# Altium footprint library Pattern No3d 20090609.PcbLib: 323 footprints (part 11 of 22)
Each footprint in its own frame and in the unit in brackets; x right, y up, seen from the top. Pads: shape width x height; smd on the part's side, far side on the other; paste and mask are expansions set on the pad; w line width, h text height; cw(c..) or ccw(c..) is an arc to the next point about the centre after c.
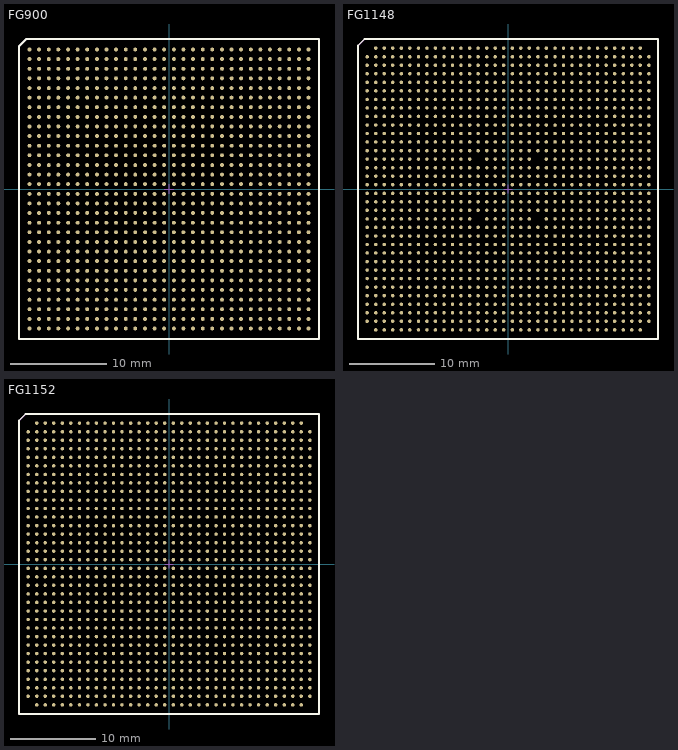
[diagram p10: the footprints below, top view; thin cyan lines are the x and y axes]

## FG900 [mil] "http://www.xilinx.com/support/documentation/package_specs/fg900.pdf"
pads (900):
  oct 16x16 smd mask+3: A1(-571,571)
  round 16 smd mask+3: A2(-532,571) A3(-492,571) A4(-453,571) A5(-413,571) A6(-374,571) A7(-335,571) A8(-295,571) A9(-256,571) A10(-217,571) A11(-177,571) A12(-138,571) A13(-98,571) A14(-59,571) A15(-20,571) A16(20,571) A17(59,571) A18(98,571) A19(138,571) A20(177,571) A21(217,571) A22(256,571) A23(295,571) A24(335,571) A25(374,571) A26(413,571) A27(453,571) A28(492,571) A29(532,571) A30(571,571) AA1(-571,-217) AA2(-532,-217) AA3(-492,-217) AA4(-453,-217) AA5(-413,-217) AA6(-374,-217) AA7(-335,-217) AA8(-295,-217) AA9(-256,-217) AA10(-217,-217) AA11(-177,-217) AA12(-138,-217) AA13(-98,-217) AA14(-59,-217) AA15(-20,-217) AA16(20,-217) AA17(59,-217) AA18(98,-217) AA19(138,-217) AA20(177,-217) AA21(217,-217) AA22(256,-217) AA23(295,-217) AA24(335,-217) AA25(374,-217) AA26(413,-217) AA27(453,-217) AA28(492,-217) AA29(532,-217) AA30(571,-217) AB1(-571,-256) AB2(-532,-256) AB3(-492,-256) AB4(-453,-256) AB5(-413,-256) AB6(-374,-256) AB7(-335,-256) AB8(-295,-256) AB9(-256,-256) AB10(-217,-256) AB11(-177,-256) AB12(-138,-256) AB13(-98,-256) AB14(-59,-256) AB15(-20,-256) AB16(20,-256) AB17(59,-256) AB18(98,-256) AB19(138,-256) AB20(177,-256) AB21(217,-256) AB22(256,-256) AB23(295,-256) AB24(335,-256) AB25(374,-256) AB26(413,-256) AB27(453,-256) AB28(492,-256) AB29(532,-256) AB30(571,-256) AC1(-571,-295) AC2(-532,-295) AC3(-492,-295) AC4(-453,-295) AC5(-413,-295) AC6(-374,-295) AC7(-335,-295) AC8(-295,-295) AC9(-256,-295) AC10(-217,-295) AC11(-177,-295) AC12(-138,-295) AC13(-98,-295) AC14(-59,-295) AC15(-20,-295) AC16(20,-295) AC17(59,-295) AC18(98,-295) AC19(138,-295) AC20(177,-295) AC21(217,-295) AC22(256,-295) AC23(295,-295) AC24(335,-295) AC25(374,-295) AC26(413,-295) AC27(453,-295) AC28(492,-295) AC29(532,-295) AC30(571,-295) AD1(-571,-335) AD2(-532,-335) AD3(-492,-335) AD4(-453,-335) AD5(-413,-335) AD6(-374,-335) AD7(-335,-335) AD8(-295,-335) AD9(-256,-335) AD10(-217,-335) AD11(-177,-335) AD12(-138,-335) AD13(-98,-335) AD14(-59,-335) AD15(-20,-335) AD16(20,-335) AD17(59,-335) AD18(98,-335) AD19(138,-335) AD20(177,-335) AD21(217,-335) AD22(256,-335) AD23(295,-335) AD24(335,-335) AD25(374,-335) AD26(413,-335) AD27(453,-335) AD28(492,-335) AD29(532,-335) AD30(571,-335) AE1(-571,-374) AE2(-532,-374) AE3(-492,-374) AE4(-453,-374) AE5(-413,-374) AE6(-374,-374) AE7(-335,-374) AE8(-295,-374) AE9(-256,-374) AE10(-217,-374) AE11(-177,-374) AE12(-138,-374) AE13(-98,-374) AE14(-59,-374) AE15(-20,-374) AE16(20,-374) AE17(59,-374) AE18(98,-374) AE19(138,-374) AE20(177,-374) AE21(217,-374) AE22(256,-374) AE23(295,-374) AE24(335,-374) AE25(374,-374) AE26(413,-374) AE27(453,-374) AE28(492,-374) AE29(532,-374) AE30(571,-374) AF1(-571,-413) AF2(-532,-413) AF3(-492,-413) AF4(-453,-413) AF5(-413,-413) AF6(-374,-413) AF7(-335,-413) AF8(-295,-413) AF9(-256,-413) AF10(-217,-413) AF11(-177,-413) AF12(-138,-413) AF13(-98,-413) AF14(-59,-413) AF15(-20,-413) AF16(20,-413) AF17(59,-413) AF18(98,-413) AF19(138,-413) AF20(177,-413) AF21(217,-413) AF22(256,-413) AF23(295,-413) AF24(335,-413) AF25(374,-413) AF26(413,-413) AF27(453,-413) AF28(492,-413) AF29(532,-413) AF30(571,-413) AG1(-571,-453) AG2(-532,-453) AG3(-492,-453) AG4(-453,-453) AG5(-413,-453) AG6(-374,-453) AG7(-335,-453) AG8(-295,-453) AG9(-256,-453) AG10(-217,-453) AG11(-177,-453) AG12(-138,-453) AG13(-98,-453) AG14(-59,-453) AG15(-20,-453) AG16(20,-453) AG17(59,-453) AG18(98,-453) AG19(138,-453) AG20(177,-453) AG21(217,-453) AG22(256,-453) AG23(295,-453) AG24(335,-453) AG25(374,-453) AG26(413,-453) AG27(453,-453) AG28(492,-453) AG29(532,-453) AG30(571,-453) AH1(-571,-492) AH2(-532,-492) AH3(-492,-492) AH4(-453,-492) AH5(-413,-492) AH6(-374,-492) AH7(-335,-492) AH8(-295,-492) AH9(-256,-492) AH10(-217,-492) AH11(-177,-492) AH12(-138,-492) AH13(-98,-492) AH14(-59,-492) AH15(-20,-492) AH16(20,-492) AH17(59,-492) AH18(98,-492) AH19(138,-492) AH20(177,-492) AH21(217,-492) AH22(256,-492) AH23(295,-492) AH24(335,-492) AH25(374,-492) AH26(413,-492) AH27(453,-492) AH28(492,-492) AH29(532,-492) AH30(571,-492) AJ1(-571,-532) AJ2(-532,-532) AJ3(-492,-532) AJ4(-453,-532) AJ5(-413,-532) AJ6(-374,-532) AJ7(-335,-532) AJ8(-295,-532) AJ9(-256,-532) AJ10(-217,-532) AJ11(-177,-532) AJ12(-138,-532) AJ13(-98,-532) AJ14(-59,-532) AJ15(-20,-532) AJ16(20,-532) AJ17(59,-532) AJ18(98,-532) AJ19(138,-532) AJ20(177,-532) AJ21(217,-532) AJ22(256,-532) AJ23(295,-532) AJ24(335,-532) AJ25(374,-532) AJ26(413,-532) AJ27(453,-532) AJ28(492,-532) AJ29(532,-532) AJ30(571,-532) AK1(-571,-571) AK2(-532,-571) AK3(-492,-571) AK4(-453,-571) AK5(-413,-571) AK6(-374,-571) AK7(-335,-571) AK8(-295,-571) AK9(-256,-571) AK10(-217,-571) AK11(-177,-571) AK12(-138,-571) AK13(-98,-571) AK14(-59,-571) AK15(-20,-571) AK16(20,-571) AK17(59,-571) AK18(98,-571) AK19(138,-571) AK20(177,-571) AK21(217,-571) AK22(256,-571) AK23(295,-571) AK24(335,-571) AK25(374,-571) AK26(413,-571) AK27(453,-571) AK28(492,-571) AK29(532,-571) AK30(571,-571) B1(-571,532) B2(-532,532) B3(-492,532) B4(-453,532) B5(-413,532) B6(-374,532) B7(-335,532) B8(-295,532) B9(-256,532) B10(-217,532) B11(-177,532) B12(-138,532) B13(-98,532) B14(-59,532) B15(-20,532) B16(20,532) B17(59,532) B18(98,532) B19(138,532) B20(177,532) B21(217,532) B22(256,532) B23(295,532) B24(335,532) B25(374,532) B26(413,532) B27(453,532) B28(492,532) B29(532,532) B30(571,532) C1(-571,492) C2(-532,492) C3(-492,492) C4(-453,492) C5(-413,492) C6(-374,492) C7(-335,492) C8(-295,492) C9(-256,492) C10(-217,492) C11(-177,492) C12(-138,492) C13(-98,492) C14(-59,492) C15(-20,492) C16(20,492) C17(59,492) C18(98,492) C19(138,492) C20(177,492) C21(217,492) C22(256,492) C23(295,492) C24(335,492) C25(374,492) C26(413,492) C27(453,492) C28(492,492) C29(532,492) C30(571,492) D1(-571,453) D2(-532,453) D3(-492,453) D4(-453,453) D5(-413,453) D6(-374,453) D7(-335,453) D8(-295,453) D9(-256,453) D10(-217,453) D11(-177,453) D12(-138,453) D13(-98,453) D14(-59,453) D15(-20,453) D16(20,453) D17(59,453) D18(98,453) D19(138,453) D20(177,453) D21(217,453) D22(256,453) D23(295,453) D24(335,453) D25(374,453) D26(413,453) D27(453,453) D28(492,453) D29(532,453) D30(571,453) E1(-571,413) E2(-532,413) E3(-492,413) E4(-453,413) E5(-413,413) E6(-374,413) E7(-335,413) E8(-295,413) E9(-256,413) E10(-217,413) E11(-177,413) E12(-138,413) E13(-98,413) E14(-59,413) E15(-20,413) E16(20,413) E17(59,413) E18(98,413) E19(138,413) E20(177,413) E21(217,413) E22(256,413) E23(295,413) E24(335,413) E25(374,413) E26(413,413) E27(453,413) E28(492,413) E29(532,413) E30(571,413) F1(-571,374) F2(-532,374) F3(-492,374) F4(-453,374) F5(-413,374) F6(-374,374) F7(-335,374) F8(-295,374) F9(-256,374) F10(-217,374) F11(-177,374) F12(-138,374) F13(-98,374) F14(-59,374) F15(-20,374) F16(20,374) F17(59,374) F18(98,374) F19(138,374) F20(177,374) F21(217,374) F22(256,374) F23(295,374) F24(335,374) F25(374,374) F26(413,374) F27(453,374) F28(492,374) F29(532,374) F30(571,374) G1(-571,335) G2(-532,335) G3(-492,335) G4(-453,335) G5(-413,335) G6(-374,335) G7(-335,335) G8(-295,335) G9(-256,335) G10(-217,335) G11(-177,335) G12(-138,335) G13(-98,335) G14(-59,335) G15(-20,335) G16(20,335) G17(59,335) G18(98,335) G19(138,335) G20(177,335) G21(217,335) G22(256,335) G23(295,335) G24(335,335) G25(374,335) G26(413,335) G27(453,335) G28(492,335) G29(532,335) G30(571,335) H1(-571,295) H2(-532,295) H3(-492,295) H4(-453,295) H5(-413,295) H6(-374,295) H7(-335,295) H8(-295,295) H9(-256,295) H10(-217,295) H11(-177,295) H12(-138,295) H13(-98,295) H14(-59,295) H15(-20,295) H16(20,295) H17(59,295) H18(98,295) H19(138,295) H20(177,295) H21(217,295) H22(256,295) H23(295,295) H24(335,295) H25(374,295) H26(413,295) H27(453,295) H28(492,295) H29(532,295) H30(571,295) J1(-571,256) J2(-532,256) J3(-492,256) J4(-453,256) J5(-413,256) J6(-374,256) J7(-335,256) J8(-295,256) J9(-256,256) J10(-217,256) J11(-177,256) J12(-138,256) J13(-98,256) J14(-59,256) J15(-20,256) J16(20,256) J17(59,256) J18(98,256) J19(138,256) J20(177,256) J21(217,256) J22(256,256) J23(295,256) J24(335,256) J25(374,256) J26(413,256) J27(453,256) J28(492,256) J29(532,256) J30(571,256) K1(-571,217) K2(-532,217) K3(-492,217) K4(-453,217) K5(-413,217) K6(-374,217) K7(-335,217) K8(-295,217) K9(-256,217) K10(-217,217) K11(-177,217) K12(-138,217) K13(-98,217) K14(-59,217) K15(-20,217) K16(20,217) K17(59,217) K18(98,217) K19(138,217) K20(177,217) K21(217,217) K22(256,217) K23(295,217) K24(335,217) K25(374,217) K26(413,217) K27(453,217) K28(492,217) K29(532,217) K30(571,217) L1(-571,177) L2(-532,177) L3(-492,177) L4(-453,177) L5(-413,177) L6(-374,177) L7(-335,177) L8(-295,177) L9(-256,177) L10(-217,177) L11(-177,177) L12(-138,177) L13(-98,177) L14(-59,177) L15(-20,177) L16(20,177) L17(59,177) L18(98,177) L19(138,177) L20(177,177) L21(217,177) L22(256,177) L23(295,177) L24(335,177) L25(374,177) L26(413,177) L27(453,177) L28(492,177) L29(532,177) L30(571,177) M1(-571,138) M2(-532,138) M3(-492,138) M4(-453,138) M5(-413,138) M6(-374,138) M7(-335,138) M8(-295,138) M9(-256,138) M10(-217,138) M11(-177,138) M12(-138,138) M13(-98,138) M14(-59,138) M15(-20,138) M16(20,138) M17(59,138) M18(98,138) M19(138,138) M20(177,138) M21(217,138) M22(256,138) M23(295,138) M24(335,138) M25(374,138) M26(413,138) M27(453,138) M28(492,138) M29(532,138) M30(571,138) N1(-571,98) N2(-532,98) N3(-492,98) N4(-453,98) N5(-413,98) N6(-374,98) N7(-335,98) N8(-295,98) N9(-256,98) N10(-217,98) N11(-177,98) N12(-138,98) N13(-98,98) N14(-59,98) N15(-20,98) N16(20,98) N17(59,98) N18(98,98) N19(138,98) N20(177,98) N21(217,98) N22(256,98) N23(295,98) N24(335,98) N25(374,98) N26(413,98) N27(453,98) N28(492,98) N29(532,98) N30(571,98) P1(-571,59) P2(-532,59) P3(-492,59) P4(-453,59) P5(-413,59) P6(-374,59) P7(-335,59) P8(-295,59) P9(-256,59) P10(-217,59) P11(-177,59) P12(-138,59) P13(-98,59) P14(-59,59) P15(-20,59) P16(20,59) P17(59,59) P18(98,59) P19(138,59) P20(177,59) P21(217,59) P22(256,59) P23(295,59) P24(335,59) P25(374,59) P26(413,59) P27(453,59) P28(492,59) P29(532,59) P30(571,59) R1(-571,20) R2(-532,20) R3(-492,20) R4(-453,20) R5(-413,20) R6(-374,20) R7(-335,20) R8(-295,20) R9(-256,20) R10(-217,20) R11(-177,20) R12(-138,20) R13(-98,20) R14(-59,20) R15(-20,20) R16(20,20) R17(59,20) R18(98,20) R19(138,20) R20(177,20) R21(217,20) R22(256,20) R23(295,20) R24(335,20) R25(374,20) R26(413,20) R27(453,20) R28(492,20) R29(532,20) R30(571,20) T1(-571,-20) T2(-532,-20) T3(-492,-20) T4(-453,-20) T5(-413,-20) T6(-374,-20) T7(-335,-20) T8(-295,-20) T9(-256,-20) T10(-217,-20) T11(-177,-20) T12(-138,-20) T13(-98,-20) T14(-59,-20) T15(-20,-20) T16(20,-20) T17(59,-20) T18(98,-20) T19(138,-20) T20(177,-20) T21(217,-20) T22(256,-20) T23(295,-20) T24(335,-20) T25(374,-20) T26(413,-20) T27(453,-20) T28(492,-20) T29(532,-20) T30(571,-20) U1(-571,-59) U2(-532,-59) U3(-492,-59) U4(-453,-59) U5(-413,-59) U6(-374,-59) U7(-335,-59) U8(-295,-59) U9(-256,-59) U10(-217,-59) U11(-177,-59) U12(-138,-59) U13(-98,-59) U14(-59,-59) U15(-20,-59) U16(20,-59) U17(59,-59) U18(98,-59) U19(138,-59) U20(177,-59) U21(217,-59) U22(256,-59) U23(295,-59) U24(335,-59) U25(374,-59) U26(413,-59) U27(453,-59) U28(492,-59) U29(532,-59) U30(571,-59) V1(-571,-98) V2(-532,-98) V3(-492,-98) V4(-453,-98) V5(-413,-98) V6(-374,-98) V7(-335,-98) V8(-295,-98) V9(-256,-98) V10(-217,-98) V11(-177,-98) V12(-138,-98) V13(-98,-98) V14(-59,-98) V15(-20,-98) V16(20,-98) V17(59,-98) V18(98,-98) V19(138,-98) V20(177,-98) V21(217,-98) V22(256,-98) V23(295,-98) V24(335,-98) V25(374,-98) V26(413,-98) V27(453,-98) V28(492,-98) V29(532,-98) V30(571,-98) W1(-571,-138) W2(-532,-138) W3(-492,-138) W4(-453,-138) W5(-413,-138) W6(-374,-138) W7(-335,-138) W8(-295,-138) W9(-256,-138) W10(-217,-138) W11(-177,-138) W12(-138,-138) W13(-98,-138) W14(-59,-138) W15(-20,-138) W16(20,-138) W17(59,-138) W18(98,-138) W19(138,-138) W20(177,-138) W21(217,-138) W22(256,-138) W23(295,-138) W24(335,-138) W25(374,-138) W26(413,-138) W27(453,-138) W28(492,-138) W29(532,-138) W30(571,-138) Y1(-571,-177) Y2(-532,-177) Y3(-492,-177) Y4(-453,-177) Y5(-413,-177) Y6(-374,-177) Y7(-335,-177) Y8(-295,-177) Y9(-256,-177) Y10(-217,-177) Y11(-177,-177) Y12(-138,-177) Y13(-98,-177) Y14(-59,-177) Y15(-20,-177) Y16(20,-177) Y17(59,-177) Y18(98,-177) Y19(138,-177) Y20(177,-177) Y21(217,-177) Y22(256,-177) Y23(295,-177) Y24(335,-177) Y25(374,-177) Y26(413,-177) Y27(453,-177) Y28(492,-177) Y29(532,-177) Y30(571,-177)
Top Overlay:
  lines w8: -614,-614 614,-614 614,614 -584,614 -614,584 -614,-614
Mechanical 1:
  lines w4: -614,-614 614,-614 614,614 -584,614 -614,584 -614,-614
Mechanical 15:
  lines w4: -20,0 20,0 ; 0,-20 0,20

## FG1148 [mil] "http://www.xilinx.com/support/documentation/package_specs/ff1148.pdf"
pads (1148):
  round 16 smd mask+3: A2(-610,650) A3(-571,650) A4(-532,650) A5(-492,650) A6(-453,650) A7(-413,650) A8(-374,650) A9(-335,650) A10(-295,650) A11(-256,650) A12(-217,650) A13(-177,650) A14(-138,650) A15(-98,650) A16(-59,650) A17(-20,650) A18(20,650) A19(59,650) A20(98,650) A21(138,650) A22(177,650) A23(217,650) A24(256,650) A25(295,650) A26(335,650) A27(374,650) A28(413,650) A29(453,650) A30(492,650) A31(532,650) A32(571,650) A33(610,650) AA1(-650,-138) AA2(-610,-138) AA3(-571,-138) AA4(-532,-138) AA5(-492,-138) AA6(-453,-138) AA7(-413,-138) AA8(-374,-138) AA9(-335,-138) AA10(-295,-138) AA11(-256,-138) AA12(-217,-138) AA13(-177,-138) AA15(-98,-138) AA16(-59,-138) AA17(-20,-138) AA18(20,-138) AA19(59,-138) AA20(98,-138) AA22(177,-138) AA23(217,-138) AA24(256,-138) AA25(295,-138) AA26(335,-138) AA27(374,-138) AA28(413,-138) AA29(453,-138) AA30(492,-138) AA31(532,-138) AA32(571,-138) AA33(610,-138) AA34(650,-138) AB1(-650,-177) AB2(-610,-177) AB3(-571,-177) AB4(-532,-177) AB5(-492,-177) AB6(-453,-177) AB7(-413,-177) AB8(-374,-177) AB9(-335,-177) AB10(-295,-177) AB11(-256,-177) AB12(-217,-177) AB13(-177,-177) AB14(-138,-177) AB15(-98,-177) AB16(-59,-177) AB17(-20,-177) AB18(20,-177) AB19(59,-177) AB20(98,-177) AB21(138,-177) AB22(177,-177) AB23(217,-177) AB24(256,-177) AB25(295,-177) AB26(335,-177) AB27(374,-177) AB28(413,-177) AB29(453,-177) AB30(492,-177) AB31(532,-177) AB32(571,-177) AB33(610,-177) AB34(650,-177) AC1(-650,-217) AC2(-610,-217) AC3(-571,-217) AC4(-532,-217) AC5(-492,-217) AC6(-453,-217) AC7(-413,-217) AC8(-374,-217) AC9(-335,-217) AC10(-295,-217) AC11(-256,-217) AC12(-217,-217) AC13(-177,-217) AC14(-138,-217) AC15(-98,-217) AC16(-59,-217) AC17(-20,-217) AC18(20,-217) AC19(59,-217) AC20(98,-217) AC21(138,-217) AC22(177,-217) AC23(217,-217) AC24(256,-217) AC25(295,-217) AC26(335,-217) AC27(374,-217) AC28(413,-217) AC29(453,-217) AC30(492,-217) AC31(532,-217) AC32(571,-217) AC33(610,-217) AC34(650,-217) AD1(-650,-256) AD2(-610,-256) AD3(-571,-256) AD4(-532,-256) AD5(-492,-256) AD6(-453,-256) AD7(-413,-256) AD8(-374,-256) AD9(-335,-256) AD10(-295,-256) AD11(-256,-256) AD12(-217,-256) AD13(-177,-256) AD14(-138,-256) AD15(-98,-256) AD16(-59,-256) AD17(-20,-256) AD18(20,-256) AD19(59,-256) AD20(98,-256) AD21(138,-256) AD22(177,-256) AD23(217,-256) AD24(256,-256) AD25(295,-256) AD26(335,-256) AD27(374,-256) AD28(413,-256) AD29(453,-256) AD30(492,-256) AD31(532,-256) AD32(571,-256) AD33(610,-256) AD34(650,-256) AE1(-650,-295) AE2(-610,-295) AE3(-571,-295) AE4(-532,-295) AE5(-492,-295) AE6(-453,-295) AE7(-413,-295) AE8(-374,-295) AE9(-335,-295) AE10(-295,-295) AE11(-256,-295) AE12(-217,-295) AE13(-177,-295) AE14(-138,-295) AE15(-98,-295) AE16(-59,-295) AE17(-20,-295) AE18(20,-295) AE19(59,-295) AE20(98,-295) AE21(138,-295) AE22(177,-295) AE23(217,-295) AE24(256,-295) AE25(295,-295) AE26(335,-295) AE27(374,-295) AE28(413,-295) AE29(453,-295) AE30(492,-295) AE31(532,-295) AE32(571,-295) AE33(610,-295) AE34(650,-295) AF1(-650,-335) AF2(-610,-335) AF3(-571,-335) AF4(-532,-335) AF5(-492,-335) AF6(-453,-335) AF7(-413,-335) AF8(-374,-335) AF9(-335,-335) AF10(-295,-335) AF11(-256,-335) AF12(-217,-335) AF13(-177,-335) AF14(-138,-335) AF15(-98,-335) AF16(-59,-335) AF17(-20,-335) AF18(20,-335) AF19(59,-335) AF20(98,-335) AF21(138,-335) AF22(177,-335) AF23(217,-335) AF24(256,-335) AF25(295,-335) AF26(335,-335) AF27(374,-335) AF28(413,-335) AF29(453,-335) AF30(492,-335) AF31(532,-335) AF32(571,-335) AF33(610,-335) AF34(650,-335) AG1(-650,-374) AG2(-610,-374) AG3(-571,-374) AG4(-532,-374) AG5(-492,-374) AG6(-453,-374) AG7(-413,-374) AG8(-374,-374) AG9(-335,-374) AG10(-295,-374) AG11(-256,-374) AG12(-217,-374) AG13(-177,-374) AG14(-138,-374) AG15(-98,-374) AG16(-59,-374) AG17(-20,-374) AG18(20,-374) AG19(59,-374) AG20(98,-374) AG21(138,-374) AG22(177,-374) AG23(217,-374) AG24(256,-374) AG25(295,-374) AG26(335,-374) AG27(374,-374) AG28(413,-374) AG29(453,-374) AG30(492,-374) AG31(532,-374) AG32(571,-374) AG33(610,-374) AG34(650,-374) AH1(-650,-413) AH2(-610,-413) AH3(-571,-413) AH4(-532,-413) AH5(-492,-413) AH6(-453,-413) AH7(-413,-413) AH8(-374,-413) AH9(-335,-413) AH10(-295,-413) AH11(-256,-413) AH12(-217,-413) AH13(-177,-413) AH14(-138,-413) AH15(-98,-413) AH16(-59,-413) AH17(-20,-413) AH18(20,-413) AH19(59,-413) AH20(98,-413) AH21(138,-413) AH22(177,-413) AH23(217,-413) AH24(256,-413) AH25(295,-413) AH26(335,-413) AH27(374,-413) AH28(413,-413) AH29(453,-413) AH30(492,-413) AH31(532,-413) AH32(571,-413) AH33(610,-413) AH34(650,-413) AJ1(-650,-453) AJ2(-610,-453) AJ3(-571,-453) AJ4(-532,-453) AJ5(-492,-453) AJ6(-453,-453) AJ7(-413,-453) AJ8(-374,-453) AJ9(-335,-453) AJ10(-295,-453) AJ11(-256,-453) AJ12(-217,-453) AJ13(-177,-453) AJ14(-138,-453) AJ15(-98,-453) AJ16(-59,-453) AJ17(-20,-453) AJ18(20,-453) AJ19(59,-453) AJ20(98,-453) AJ21(138,-453) AJ22(177,-453) AJ23(217,-453) AJ24(256,-453) AJ25(295,-453) AJ26(335,-453) AJ27(374,-453) AJ28(413,-453) AJ29(453,-453) AJ30(492,-453) AJ31(532,-453) AJ32(571,-453) AJ33(610,-453) AJ34(650,-453) AK1(-650,-492) AK2(-610,-492) AK3(-571,-492) AK4(-532,-492) AK5(-492,-492) AK6(-453,-492) AK7(-413,-492) AK8(-374,-492) AK9(-335,-492) AK10(-295,-492) AK11(-256,-492) AK12(-217,-492) AK13(-177,-492) AK14(-138,-492) AK15(-98,-492) AK16(-59,-492) AK17(-20,-492) AK18(20,-492) AK19(59,-492) AK20(98,-492) AK21(138,-492) AK22(177,-492) AK23(217,-492) AK24(256,-492) AK25(295,-492) AK26(335,-492) AK27(374,-492) AK28(413,-492) AK29(453,-492) AK30(492,-492) AK31(532,-492) AK32(571,-492) AK33(610,-492) AK34(650,-492) AL1(-650,-532) AL2(-610,-532) AL3(-571,-532) AL4(-532,-532) AL5(-492,-532) AL6(-453,-532) AL7(-413,-532) AL8(-374,-532) AL9(-335,-532) AL10(-295,-532) AL11(-256,-532) AL12(-217,-532) AL13(-177,-532) AL14(-138,-532) AL15(-98,-532) AL16(-59,-532) AL17(-20,-532) AL18(20,-532) AL19(59,-532) AL20(98,-532) AL21(138,-532) AL22(177,-532) AL23(217,-532) AL24(256,-532) AL25(295,-532) AL26(335,-532) AL27(374,-532) AL28(413,-532) AL29(453,-532) AL30(492,-532) AL31(532,-532) AL32(571,-532) AL33(610,-532) AL34(650,-532) AM1(-650,-571) AM2(-610,-571) AM3(-571,-571) AM4(-532,-571) AM5(-492,-571) AM6(-453,-571) AM7(-413,-571) AM8(-374,-571) AM9(-335,-571) AM10(-295,-571) AM11(-256,-571) AM12(-217,-571) AM13(-177,-571) AM14(-138,-571) AM15(-98,-571) AM16(-59,-571) AM17(-20,-571) AM18(20,-571) AM19(59,-571) AM20(98,-571) AM21(138,-571) AM22(177,-571) AM23(217,-571) AM24(256,-571) AM25(295,-571) AM26(335,-571) AM27(374,-571) AM28(413,-571) AM29(453,-571) AM30(492,-571) AM31(532,-571) AM32(571,-571) AM33(610,-571) AM34(650,-571) AN1(-650,-610) AN2(-610,-610) AN3(-571,-610) AN4(-532,-610) AN5(-492,-610) AN6(-453,-610) AN7(-413,-610) AN8(-374,-610) AN9(-335,-610) AN10(-295,-610) AN11(-256,-610) AN12(-217,-610) AN13(-177,-610) AN14(-138,-610) AN15(-98,-610) AN16(-59,-610) AN17(-20,-610) AN18(20,-610) AN19(59,-610) AN20(98,-610) AN21(138,-610) AN22(177,-610) AN23(217,-610) AN24(256,-610) AN25(295,-610) AN26(335,-610) AN27(374,-610) AN28(413,-610) AN29(453,-610) AN30(492,-610) AN31(532,-610) AN32(571,-610) AN33(610,-610) AN34(650,-610) AP2(-610,-650) AP3(-571,-650) AP4(-532,-650) AP5(-492,-650) AP6(-453,-650) AP7(-413,-650) AP8(-374,-650) AP9(-335,-650) AP10(-295,-650) AP11(-256,-650) AP12(-217,-650) AP13(-177,-650) AP14(-138,-650) AP15(-98,-650) AP16(-59,-650) AP17(-20,-650) AP18(20,-650) AP19(59,-650) AP20(98,-650) AP21(138,-650) AP22(177,-650) AP23(217,-650) AP24(256,-650) AP25(295,-650) AP26(335,-650) AP27(374,-650) AP28(413,-650) AP29(453,-650) AP30(492,-650) AP31(532,-650) AP32(571,-650) AP33(610,-650) B2(-610,610) B3(-571,610) B4(-532,610) B5(-492,610) B6(-453,610) B7(-413,610) B8(-374,610) B9(-335,610) B10(-295,610) B11(-256,610) B12(-217,610) B13(-177,610) B14(-138,610) B15(-98,610) B16(-59,610) B17(-20,610) B18(20,610) B19(59,610) B20(98,610) B21(138,610) B22(177,610) B23(217,610) B24(256,610) B25(295,610) B26(335,610) B27(374,610) B28(413,610) B29(453,610) B30(492,610) B31(532,610) B32(571,610) B33(610,610) B34(650,610) C1(-650,571) C2(-610,571) C3(-571,571) C4(-532,571) C5(-492,571) C6(-453,571) C7(-413,571) C8(-374,571) C9(-335,571) C10(-295,571) C11(-256,571) C12(-217,571) C13(-177,571) C14(-138,571) C15(-98,571) C16(-59,571) C17(-20,571) C18(20,571) C19(59,571) C20(98,571) C21(138,571) C22(177,571) C23(217,571) C24(256,571) C25(295,571) C26(335,571) C27(374,571) C28(413,571) C29(453,571) C30(492,571) C31(532,571) C32(571,571) C33(610,571) C34(650,571) D1(-650,532) D2(-610,532) D3(-571,532) D4(-532,532) D5(-492,532) D6(-453,532) D7(-413,532) D8(-374,532) D9(-335,532) D10(-295,532) D11(-256,532) D12(-217,532) D13(-177,532) D14(-138,532) D15(-98,532) D16(-59,532) D17(-20,532) D18(20,532) D19(59,532) D20(98,532) D21(138,532) D22(177,532) D23(217,532) D24(256,532) D25(295,532) D26(335,532) D27(374,532) D28(413,532) D29(453,532) D30(492,532) D31(532,532) D32(571,532) D33(610,532) D34(650,532) E1(-650,492) E2(-610,492) E3(-571,492) E4(-532,492) E5(-492,492) E6(-453,492) E7(-413,492) E8(-374,492) E9(-335,492) E10(-295,492) E11(-256,492) E12(-217,492) E13(-177,492) E14(-138,492) E15(-98,492) E16(-59,492) E17(-20,492) E18(20,492) E19(59,492) E20(98,492) E21(138,492) E22(177,492) E23(217,492) E24(256,492) E25(295,492) E26(335,492) E27(374,492) E28(413,492) E29(453,492) E30(492,492) E31(532,492) E32(571,492) E33(610,492) E34(650,492) F1(-650,453) F2(-610,453) F3(-571,453) F4(-532,453) F5(-492,453) F6(-453,453) F7(-413,453) F8(-374,453) F9(-335,453) F10(-295,453) F11(-256,453) F12(-217,453) F13(-177,453) F14(-138,453) F15(-98,453) F16(-59,453) F17(-20,453) F18(20,453) F19(59,453) F20(98,453) F21(138,453) F22(177,453) F23(217,453) F24(256,453) F25(295,453) F26(335,453) F27(374,453) F28(413,453) F29(453,453) F30(492,453) F31(532,453) F32(571,453) F33(610,453) F34(650,453) G1(-650,413) G2(-610,413) G3(-571,413) G4(-532,413) G5(-492,413) G6(-453,413) G7(-413,413) G8(-374,413) G9(-335,413) G10(-295,413) G11(-256,413) G12(-217,413) G13(-177,413) G14(-138,413) G15(-98,413) G16(-59,413) G17(-20,413) G18(20,413) G19(59,413) G20(98,413) G21(138,413) G22(177,413) G23(217,413) G24(256,413) G25(295,413) G26(335,413) G27(374,413) G28(413,413) G29(453,413) G30(492,413) G31(532,413) G32(571,413) G33(610,413) G34(650,413) H1(-650,374) H2(-610,374) H3(-571,374) H4(-532,374) H5(-492,374) H6(-453,374) H7(-413,374) H8(-374,374) H9(-335,374) H10(-295,374) H11(-256,374) H12(-217,374) H13(-177,374) H14(-138,374) H15(-98,374) H16(-59,374) H17(-20,374) H18(20,374) H19(59,374) H20(98,374) H21(138,374) H22(177,374) H23(217,374) H24(256,374) H25(295,374) H26(335,374) H27(374,374) H28(413,374) H29(453,374) H30(492,374) H31(532,374) H32(571,374) H33(610,374) H34(650,374) J1(-650,335) J2(-610,335) J3(-571,335) J4(-532,335) J5(-492,335) J6(-453,335) J7(-413,335) J8(-374,335) J9(-335,335) J10(-295,335) J11(-256,335) J12(-217,335) J13(-177,335) J14(-138,335) J15(-98,335) J16(-59,335) J17(-20,335) J18(20,335) J19(59,335) J20(98,335) J21(138,335) J22(177,335) J23(217,335) J24(256,335) J25(295,335) J26(335,335) J27(374,335) J28(413,335) J29(453,335) J30(492,335) J31(532,335) J32(571,335) J33(610,335) J34(650,335) K1(-650,295) K2(-610,295) K3(-571,295) K4(-532,295) K5(-492,295) K6(-453,295) K7(-413,295) K8(-374,295) K9(-335,295) K10(-295,295) K11(-256,295) K12(-217,295) K13(-177,295) K14(-138,295) K15(-98,295) K16(-59,295) K17(-20,295) K18(20,295) K19(59,295) K20(98,295) K21(138,295) K22(177,295) K23(217,295) K24(256,295) K25(295,295) K26(335,295) K27(374,295) K28(413,295) K29(453,295) K30(492,295) K31(532,295) K32(571,295) K33(610,295) K34(650,295) L1(-650,256) L2(-610,256) L3(-571,256) L4(-532,256) L5(-492,256) L6(-453,256) L7(-413,256) L8(-374,256) L9(-335,256) L10(-295,256) L11(-256,256) L12(-217,256) L13(-177,256) L14(-138,256) L15(-98,256) L16(-59,256) L17(-20,256) L18(20,256) L19(59,256) L20(98,256) L21(138,256) L22(177,256) L23(217,256) L24(256,256) L25(295,256) L26(335,256) L27(374,256) L28(413,256) L29(453,256) L30(492,256) L31(532,256) L32(571,256) L33(610,256) L34(650,256) M1(-650,217) M2(-610,217) M3(-571,217) M4(-532,217) M5(-492,217) M6(-453,217) M7(-413,217) M8(-374,217) M9(-335,217) M10(-295,217) M11(-256,217) M12(-217,217) M13(-177,217) M14(-138,217) M15(-98,217) M16(-59,217) M17(-20,217) M18(20,217) M19(59,217) M20(98,217) M21(138,217) M22(177,217) M23(217,217) M24(256,217) M25(295,217) M26(335,217) M27(374,217) M28(413,217) M29(453,217) M30(492,217) M31(532,217) M32(571,217) M33(610,217) M34(650,217) N1(-650,177) N2(-610,177) N3(-571,177) N4(-532,177) N5(-492,177) N6(-453,177) N7(-413,177) N8(-374,177) N9(-335,177) N10(-295,177) N11(-256,177) N12(-217,177) N13(-177,177) N14(-138,177) N15(-98,177) N16(-59,177) N17(-20,177) N18(20,177) N19(59,177) N20(98,177) N21(138,177) N22(177,177) N23(217,177) N24(256,177) N25(295,177) N26(335,177) N27(374,177) N28(413,177) N29(453,177) N30(492,177) N31(532,177) N32(571,177) N33(610,177) N34(650,177) P1(-650,138) P2(-610,138) P3(-571,138) P4(-532,138) P5(-492,138) P6(-453,138) P7(-413,138) P8(-374,138) P9(-335,138) P10(-295,138) P11(-256,138) P12(-217,138) P13(-177,138) P15(-98,138) P16(-59,138) P17(-20,138) P18(20,138) P19(59,138) P20(98,138) P22(177,138) P23(217,138) P24(256,138) P25(295,138) P26(335,138) P27(374,138) P28(413,138) P29(453,138) P30(492,138) P31(532,138) P32(571,138) P33(610,138) P34(650,138) R1(-650,98) R2(-610,98) R3(-571,98) R4(-532,98) R5(-492,98) R6(-453,98) R7(-413,98) R8(-374,98) R9(-335,98) R10(-295,98) R11(-256,98) R12(-217,98) R13(-177,98) R14(-138,98) R15(-98,98) R16(-59,98) R17(-20,98) R18(20,98) R19(59,98) R20(98,98) R21(138,98) R22(177,98) R23(217,98) R24(256,98) R25(295,98) R26(335,98) R27(374,98) R28(413,98) R29(453,98) R30(492,98) R31(532,98) R32(571,98) R33(610,98) R34(650,98) T1(-650,59) T2(-610,59) T3(-571,59) T4(-532,59) T5(-492,59) T6(-453,59) T7(-413,59) T8(-374,59) T9(-335,59) T10(-295,59) T11(-256,59) T12(-217,59) T13(-177,59) T14(-138,59) T15(-98,59) T16(-59,59) T17(-20,59) T18(20,59) T19(59,59) T20(98,59) T21(138,59) T22(177,59) T23(217,59) T24(256,59) T25(295,59) T26(335,59) T27(374,59) T28(413,59) T29(453,59) T30(492,59) T31(532,59) T32(571,59) T33(610,59) T34(650,59) U1(-650,20) U2(-610,20) U3(-571,20) U4(-532,20) U5(-492,20) U6(-453,20) U7(-413,20) U8(-374,20) U9(-335,20) U10(-295,20) U11(-256,20) U12(-217,20) U13(-177,20) U14(-138,20) U15(-98,20) U16(-59,20) U17(-20,20) U18(20,20) U19(59,20) U20(98,20) U21(138,20) U22(177,20) U23(217,20) U24(256,20) U25(295,20) U26(335,20) U27(374,20) U28(413,20) U29(453,20) U30(492,20) U31(532,20) U32(571,20) U33(610,20) U34(650,20) V1(-650,-20) V2(-610,-20) V3(-571,-20) V4(-532,-20) V5(-492,-20) V6(-453,-20) V7(-413,-20) V8(-374,-20) V9(-335,-20) V10(-295,-20) V11(-256,-20) V12(-217,-20) V13(-177,-20) V14(-138,-20) V15(-98,-20) V16(-59,-20) V17(-20,-20) V18(20,-20) V19(59,-20) V20(98,-20) V21(138,-20) V22(177,-20) V23(217,-20) V24(256,-20) V25(295,-20) V26(335,-20) V27(374,-20) V28(413,-20) V29(453,-20) V30(492,-20) V31(532,-20) V32(571,-20) V33(610,-20) V34(650,-20) W1(-650,-59) W2(-610,-59) W3(-571,-59) W4(-532,-59) W5(-492,-59) W6(-453,-59) W7(-413,-59) W8(-374,-59) W9(-335,-59) W10(-295,-59) W11(-256,-59) W12(-217,-59) W13(-177,-59) W14(-138,-59) W15(-98,-59) W16(-59,-59) W17(-20,-59) W18(20,-59) W19(59,-59) W20(98,-59) W21(138,-59) W22(177,-59) W23(217,-59) W24(256,-59) W25(295,-59) W26(335,-59) W27(374,-59) W28(413,-59) W29(453,-59) W30(492,-59) W31(532,-59) W32(571,-59) W33(610,-59) W34(650,-59) Y1(-650,-98) Y2(-610,-98) Y3(-571,-98) Y4(-532,-98) Y5(-492,-98) Y6(-453,-98) Y7(-413,-98) Y8(-374,-98) Y9(-335,-98) Y10(-295,-98) Y11(-256,-98) Y12(-217,-98) Y13(-177,-98) Y14(-138,-98) Y15(-98,-98) Y16(-59,-98) Y17(-20,-98) Y18(20,-98) Y19(59,-98) Y20(98,-98) Y21(138,-98) Y22(177,-98) Y23(217,-98) Y24(256,-98) Y25(295,-98) Y26(335,-98) Y27(374,-98) Y28(413,-98) Y29(453,-98) Y30(492,-98) Y31(532,-98) Y32(571,-98) Y33(610,-98) Y34(650,-98)
  oct 16x16 smd mask+3: B1(-650,610)
Top Overlay:
  lines w8: -692,-692 692,-692 692,692 -662,692 -692,662 -692,-692
Mechanical 1:
  lines w4: -692,-692 692,-692 692,692 -662,692 -692,662 -692,-692
Mechanical 15:
  lines w4: -20,0 20,0 ; 0,-20 0,20

## FG1152 [mil] "http://www.xilinx.com/support/documentation/package_specs/ff1152.pdf"
pads (1152):
  round 16 smd mask+3: A2(-610,650) A3(-571,650) A4(-532,650) A5(-492,650) A6(-453,650) A7(-413,650) A8(-374,650) A9(-335,650) A10(-295,650) A11(-256,650) A12(-217,650) A13(-177,650) A14(-138,650) A15(-98,650) A16(-59,650) A17(-20,650) A18(20,650) A19(59,650) A20(98,650) A21(138,650) A22(177,650) A23(217,650) A24(256,650) A25(295,650) A26(335,650) A27(374,650) A28(413,650) A29(453,650) A30(492,650) A31(532,650) A32(571,650) A33(610,650) AA1(-650,-138) AA2(-610,-138) AA3(-571,-138) AA4(-532,-138) AA5(-492,-138) AA6(-453,-138) AA7(-413,-138) AA8(-374,-138) AA9(-335,-138) AA10(-295,-138) AA11(-256,-138) AA12(-217,-138) AA13(-177,-138) AA14(-138,-138) AA15(-98,-138) AA16(-59,-138) AA17(-20,-138) AA18(20,-138) AA19(59,-138) AA20(98,-138) AA21(138,-138) AA22(177,-138) AA23(217,-138) AA24(256,-138) AA25(295,-138) AA26(335,-138) AA27(374,-138) AA28(413,-138) AA29(453,-138) AA30(492,-138) AA31(532,-138) AA32(571,-138) AA33(610,-138) AA34(650,-138) AB1(-650,-177) AB2(-610,-177) AB3(-571,-177) AB4(-532,-177) AB5(-492,-177) AB6(-453,-177) AB7(-413,-177) AB8(-374,-177) AB9(-335,-177) AB10(-295,-177) AB11(-256,-177) AB12(-217,-177) AB13(-177,-177) AB14(-138,-177) AB15(-98,-177) AB16(-59,-177) AB17(-20,-177) AB18(20,-177) AB19(59,-177) AB20(98,-177) AB21(138,-177) AB22(177,-177) AB23(217,-177) AB24(256,-177) AB25(295,-177) AB26(335,-177) AB27(374,-177) AB28(413,-177) AB29(453,-177) AB30(492,-177) AB31(532,-177) AB32(571,-177) AB33(610,-177) AB34(650,-177) AC1(-650,-217) AC2(-610,-217) AC3(-571,-217) AC4(-532,-217) AC5(-492,-217) AC6(-453,-217) AC7(-413,-217) AC8(-374,-217) AC9(-335,-217) AC10(-295,-217) AC11(-256,-217) AC12(-217,-217) AC13(-177,-217) AC14(-138,-217) AC15(-98,-217) AC16(-59,-217) AC17(-20,-217) AC18(20,-217) AC19(59,-217) AC20(98,-217) AC21(138,-217) AC22(177,-217) AC23(217,-217) AC24(256,-217) AC25(295,-217) AC26(335,-217) AC27(374,-217) AC28(413,-217) AC29(453,-217) AC30(492,-217) AC31(532,-217) AC32(571,-217) AC33(610,-217) AC34(650,-217) AD1(-650,-256) AD2(-610,-256) AD3(-571,-256) AD4(-532,-256) AD5(-492,-256) AD6(-453,-256) AD7(-413,-256) AD8(-374,-256) AD9(-335,-256) AD10(-295,-256) AD11(-256,-256) AD12(-217,-256) AD13(-177,-256) AD14(-138,-256) AD15(-98,-256) AD16(-59,-256) AD17(-20,-256) AD18(20,-256) AD19(59,-256) AD20(98,-256) AD21(138,-256) AD22(177,-256) AD23(217,-256) AD24(256,-256) AD25(295,-256) AD26(335,-256) AD27(374,-256) AD28(413,-256) AD29(453,-256) AD30(492,-256) AD31(532,-256) AD32(571,-256) AD33(610,-256) AD34(650,-256) AE1(-650,-295) AE2(-610,-295) AE3(-571,-295) AE4(-532,-295) AE5(-492,-295) AE6(-453,-295) AE7(-413,-295) AE8(-374,-295) AE9(-335,-295) AE10(-295,-295) AE11(-256,-295) AE12(-217,-295) AE13(-177,-295) AE14(-138,-295) AE15(-98,-295) AE16(-59,-295) AE17(-20,-295) AE18(20,-295) AE19(59,-295) AE20(98,-295) AE21(138,-295) AE22(177,-295) AE23(217,-295) AE24(256,-295) AE25(295,-295) AE26(335,-295) AE27(374,-295) AE28(413,-295) AE29(453,-295) AE30(492,-295) AE31(532,-295) AE32(571,-295) AE33(610,-295) AE34(650,-295) AF1(-650,-335) AF2(-610,-335) AF3(-571,-335) AF4(-532,-335) AF5(-492,-335) AF6(-453,-335) AF7(-413,-335) AF8(-374,-335) AF9(-335,-335) AF10(-295,-335) AF11(-256,-335) AF12(-217,-335) AF13(-177,-335) AF14(-138,-335) AF15(-98,-335) AF16(-59,-335) AF17(-20,-335) AF18(20,-335) AF19(59,-335) AF20(98,-335) AF21(138,-335) AF22(177,-335) AF23(217,-335) AF24(256,-335) AF25(295,-335) AF26(335,-335) AF27(374,-335) AF28(413,-335) AF29(453,-335) AF30(492,-335) AF31(532,-335) AF32(571,-335) AF33(610,-335) AF34(650,-335) AG1(-650,-374) AG2(-610,-374) AG3(-571,-374) AG4(-532,-374) AG5(-492,-374) AG6(-453,-374) AG7(-413,-374) AG8(-374,-374) AG9(-335,-374) AG10(-295,-374) AG11(-256,-374) AG12(-217,-374) AG13(-177,-374) AG14(-138,-374) AG15(-98,-374) AG16(-59,-374) AG17(-20,-374) AG18(20,-374) AG19(59,-374) AG20(98,-374) AG21(138,-374) AG22(177,-374) AG23(217,-374) AG24(256,-374) AG25(295,-374) AG26(335,-374) AG27(374,-374) AG28(413,-374) AG29(453,-374) AG30(492,-374) AG31(532,-374) AG32(571,-374) AG33(610,-374) AG34(650,-374) AH1(-650,-413) AH2(-610,-413) AH3(-571,-413) AH4(-532,-413) AH5(-492,-413) AH6(-453,-413) AH7(-413,-413) AH8(-374,-413) AH9(-335,-413) AH10(-295,-413) AH11(-256,-413) AH12(-217,-413) AH13(-177,-413) AH14(-138,-413) AH15(-98,-413) AH16(-59,-413) AH17(-20,-413) AH18(20,-413) AH19(59,-413) AH20(98,-413) AH21(138,-413) AH22(177,-413) AH23(217,-413) AH24(256,-413) AH25(295,-413) AH26(335,-413) AH27(374,-413) AH28(413,-413) AH29(453,-413) AH30(492,-413) AH31(532,-413) AH32(571,-413) AH33(610,-413) AH34(650,-413) AJ1(-650,-453) AJ2(-610,-453) AJ3(-571,-453) AJ4(-532,-453) AJ5(-492,-453) AJ6(-453,-453) AJ7(-413,-453) AJ8(-374,-453) AJ9(-335,-453) AJ10(-295,-453) AJ11(-256,-453) AJ12(-217,-453) AJ13(-177,-453) AJ14(-138,-453) AJ15(-98,-453) AJ16(-59,-453) AJ17(-20,-453) AJ18(20,-453) AJ19(59,-453) AJ20(98,-453) AJ21(138,-453) AJ22(177,-453) AJ23(217,-453) AJ24(256,-453) AJ25(295,-453) AJ26(335,-453) AJ27(374,-453) AJ28(413,-453) AJ29(453,-453) AJ30(492,-453) AJ31(532,-453) AJ32(571,-453) AJ33(610,-453) AJ34(650,-453) AK1(-650,-492) AK2(-610,-492) AK3(-571,-492) AK4(-532,-492) AK5(-492,-492) AK6(-453,-492) AK7(-413,-492) AK8(-374,-492) AK9(-335,-492) AK10(-295,-492) AK11(-256,-492) AK12(-217,-492) AK13(-177,-492) AK14(-138,-492) AK15(-98,-492) AK16(-59,-492) AK17(-20,-492) AK18(20,-492) AK19(59,-492) AK20(98,-492) AK21(138,-492) AK22(177,-492) AK23(217,-492) AK24(256,-492) AK25(295,-492) AK26(335,-492) AK27(374,-492) AK28(413,-492) AK29(453,-492) AK30(492,-492) AK31(532,-492) AK32(571,-492) AK33(610,-492) AK34(650,-492) AL1(-650,-532) AL2(-610,-532) AL3(-571,-532) AL4(-532,-532) AL5(-492,-532) AL6(-453,-532) AL7(-413,-532) AL8(-374,-532) AL9(-335,-532) AL10(-295,-532) AL11(-256,-532) AL12(-217,-532) AL13(-177,-532) AL14(-138,-532) AL15(-98,-532) AL16(-59,-532) AL17(-20,-532) AL18(20,-532) AL19(59,-532) AL20(98,-532) AL21(138,-532) AL22(177,-532) AL23(217,-532) AL24(256,-532) AL25(295,-532) AL26(335,-532) AL27(374,-532) AL28(413,-532) AL29(453,-532) AL30(492,-532) AL31(532,-532) AL32(571,-532) AL33(610,-532) AL34(650,-532) AM1(-650,-571) AM2(-610,-571) AM3(-571,-571) AM4(-532,-571) AM5(-492,-571) AM6(-453,-571) AM7(-413,-571) AM8(-374,-571) AM9(-335,-571) AM10(-295,-571) AM11(-256,-571) AM12(-217,-571) AM13(-177,-571) AM14(-138,-571) AM15(-98,-571) AM16(-59,-571) AM17(-20,-571) AM18(20,-571) AM19(59,-571) AM20(98,-571) AM21(138,-571) AM22(177,-571) AM23(217,-571) AM24(256,-571) AM25(295,-571) AM26(335,-571) AM27(374,-571) AM28(413,-571) AM29(453,-571) AM30(492,-571) AM31(532,-571) AM32(571,-571) AM33(610,-571) AM34(650,-571) AN1(-650,-610) AN2(-610,-610) AN3(-571,-610) AN4(-532,-610) AN5(-492,-610) AN6(-453,-610) AN7(-413,-610) AN8(-374,-610) AN9(-335,-610) AN10(-295,-610) AN11(-256,-610) AN12(-217,-610) AN13(-177,-610) AN14(-138,-610) AN15(-98,-610) AN16(-59,-610) AN17(-20,-610) AN18(20,-610) AN19(59,-610) AN20(98,-610) AN21(138,-610) AN22(177,-610) AN23(217,-610) AN24(256,-610) AN25(295,-610) AN26(335,-610) AN27(374,-610) AN28(413,-610) AN29(453,-610) AN30(492,-610) AN31(532,-610) AN32(571,-610) AN33(610,-610) AN34(650,-610) AP2(-610,-650) AP3(-571,-650) AP4(-532,-650) AP5(-492,-650) AP6(-453,-650) AP7(-413,-650) AP8(-374,-650) AP9(-335,-650) AP10(-295,-650) AP11(-256,-650) AP12(-217,-650) AP13(-177,-650) AP14(-138,-650) AP15(-98,-650) AP16(-59,-650) AP17(-20,-650) AP18(20,-650) AP19(59,-650) AP20(98,-650) AP21(138,-650) AP22(177,-650) AP23(217,-650) AP24(256,-650) AP25(295,-650) AP26(335,-650) AP27(374,-650) AP28(413,-650) AP29(453,-650) AP30(492,-650) AP31(532,-650) AP32(571,-650) AP33(610,-650) B2(-610,610) B3(-571,610) B4(-532,610) B5(-492,610) B6(-453,610) B7(-413,610) B8(-374,610) B9(-335,610) B10(-295,610) B11(-256,610) B12(-217,610) B13(-177,610) B14(-138,610) B15(-98,610) B16(-59,610) B17(-20,610) B18(20,610) B19(59,610) B20(98,610) B21(138,610) B22(177,610) B23(217,610) B24(256,610) B25(295,610) B26(335,610) B27(374,610) B28(413,610) B29(453,610) B30(492,610) B31(532,610) B32(571,610) B33(610,610) B34(650,610) C1(-650,571) C2(-610,571) C3(-571,571) C4(-532,571) C5(-492,571) C6(-453,571) C7(-413,571) C8(-374,571) C9(-335,571) C10(-295,571) C11(-256,571) C12(-217,571) C13(-177,571) C14(-138,571) C15(-98,571) C16(-59,571) C17(-20,571) C18(20,571) C19(59,571) C20(98,571) C21(138,571) C22(177,571) C23(217,571) C24(256,571) C25(295,571) C26(335,571) C27(374,571) C28(413,571) C29(453,571) C30(492,571) C31(532,571) C32(571,571) C33(610,571) C34(650,571) D1(-650,532) D2(-610,532) D3(-571,532) D4(-532,532) D5(-492,532) D6(-453,532) D7(-413,532) D8(-374,532) D9(-335,532) D10(-295,532) D11(-256,532) D12(-217,532) D13(-177,532) D14(-138,532) D15(-98,532) D16(-59,532) D17(-20,532) D18(20,532) D19(59,532) D20(98,532) D21(138,532) D22(177,532) D23(217,532) D24(256,532) D25(295,532) D26(335,532) D27(374,532) D28(413,532) D29(453,532) D30(492,532) D31(532,532) D32(571,532) D33(610,532) D34(650,532) E1(-650,492) E2(-610,492) E3(-571,492) E4(-532,492) E5(-492,492) E6(-453,492) E7(-413,492) E8(-374,492) E9(-335,492) E10(-295,492) E11(-256,492) E12(-217,492) E13(-177,492) E14(-138,492) E15(-98,492) E16(-59,492) E17(-20,492) E18(20,492) E19(59,492) E20(98,492) E21(138,492) E22(177,492) E23(217,492) E24(256,492) E25(295,492) E26(335,492) E27(374,492) E28(413,492) E29(453,492) E30(492,492) E31(532,492) E32(571,492) E33(610,492) E34(650,492) F1(-650,453) F2(-610,453) F3(-571,453) F4(-532,453) F5(-492,453) F6(-453,453) F7(-413,453) F8(-374,453) F9(-335,453) F10(-295,453) F11(-256,453) F12(-217,453) F13(-177,453) F14(-138,453) F15(-98,453) F16(-59,453) F17(-20,453) F18(20,453) F19(59,453) F20(98,453) F21(138,453) F22(177,453) F23(217,453) F24(256,453) F25(295,453) F26(335,453) F27(374,453) F28(413,453) F29(453,453) F30(492,453) F31(532,453) F32(571,453) F33(610,453) F34(650,453) G1(-650,413) G2(-610,413) G3(-571,413) G4(-532,413) G5(-492,413) G6(-453,413) G7(-413,413) G8(-374,413) G9(-335,413) G10(-295,413) G11(-256,413) G12(-217,413) G13(-177,413) G14(-138,413) G15(-98,413) G16(-59,413) G17(-20,413) G18(20,413) G19(59,413) G20(98,413) G21(138,413) G22(177,413) G23(217,413) G24(256,413) G25(295,413) G26(335,413) G27(374,413) G28(413,413) G29(453,413) G30(492,413) G31(532,413) G32(571,413) G33(610,413) G34(650,413) H1(-650,374) H2(-610,374) H3(-571,374) H4(-532,374) H5(-492,374) H6(-453,374) H7(-413,374) H8(-374,374) H9(-335,374) H10(-295,374) H11(-256,374) H12(-217,374) H13(-177,374) H14(-138,374) H15(-98,374) H16(-59,374) H17(-20,374) H18(20,374) H19(59,374) H20(98,374) H21(138,374) H22(177,374) H23(217,374) H24(256,374) H25(295,374) H26(335,374) H27(374,374) H28(413,374) H29(453,374) H30(492,374) H31(532,374) H32(571,374) H33(610,374) H34(650,374) J1(-650,335) J2(-610,335) J3(-571,335) J4(-532,335) J5(-492,335) J6(-453,335) J7(-413,335) J8(-374,335) J9(-335,335) J10(-295,335) J11(-256,335) J12(-217,335) J13(-177,335) J14(-138,335) J15(-98,335) J16(-59,335) J17(-20,335) J18(20,335) J19(59,335) J20(98,335) J21(138,335) J22(177,335) J23(217,335) J24(256,335) J25(295,335) J26(335,335) J27(374,335) J28(413,335) J29(453,335) J30(492,335) J31(532,335) J32(571,335) J33(610,335) J34(650,335) K1(-650,295) K2(-610,295) K3(-571,295) K4(-532,295) K5(-492,295) K6(-453,295) K7(-413,295) K8(-374,295) K9(-335,295) K10(-295,295) K11(-256,295) K12(-217,295) K13(-177,295) K14(-138,295) K15(-98,295) K16(-59,295) K17(-20,295) K18(20,295) K19(59,295) K20(98,295) K21(138,295) K22(177,295) K23(217,295) K24(256,295) K25(295,295) K26(335,295) K27(374,295) K28(413,295) K29(453,295) K30(492,295) K31(532,295) K32(571,295) K33(610,295) K34(650,295) L1(-650,256) L2(-610,256) L3(-571,256) L4(-532,256) L5(-492,256) L6(-453,256) L7(-413,256) L8(-374,256) L9(-335,256) L10(-295,256) L11(-256,256) L12(-217,256) L13(-177,256) L14(-138,256) L15(-98,256) L16(-59,256) L17(-20,256) L18(20,256) L19(59,256) L20(98,256) L21(138,256) L22(177,256) L23(217,256) L24(256,256) L25(295,256) L26(335,256) L27(374,256) L28(413,256) L29(453,256) L30(492,256) L31(532,256) L32(571,256) L33(610,256) L34(650,256) M1(-650,217) M2(-610,217) M3(-571,217) M4(-532,217) M5(-492,217) M6(-453,217) M7(-413,217) M8(-374,217) M9(-335,217) M10(-295,217) M11(-256,217) M12(-217,217) M13(-177,217) M14(-138,217) M15(-98,217) M16(-59,217) M17(-20,217) M18(20,217) M19(59,217) M20(98,217) M21(138,217) M22(177,217) M23(217,217) M24(256,217) M25(295,217) M26(335,217) M27(374,217) M28(413,217) M29(453,217) M30(492,217) M31(532,217) M32(571,217) M33(610,217) M34(650,217) N1(-650,177) N2(-610,177) N3(-571,177) N4(-532,177) N5(-492,177) N6(-453,177) N7(-413,177) N8(-374,177) N9(-335,177) N10(-295,177) N11(-256,177) N12(-217,177) N13(-177,177) N14(-138,177) N15(-98,177) N16(-59,177) N17(-20,177) N18(20,177) N19(59,177) N20(98,177) N21(138,177) N22(177,177) N23(217,177) N24(256,177) N25(295,177) N26(335,177) N27(374,177) N28(413,177) N29(453,177) N30(492,177) N31(532,177) N32(571,177) N33(610,177) N34(650,177) P1(-650,138) P2(-610,138) P3(-571,138) P4(-532,138) P5(-492,138) P6(-453,138) P7(-413,138) P8(-374,138) P9(-335,138) P10(-295,138) P11(-256,138) P12(-217,138) P13(-177,138) P14(-138,138) P15(-98,138) P16(-59,138) P17(-20,138) P18(20,138) P19(59,138) P20(98,138) P21(138,138) P22(177,138) P23(217,138) P24(256,138) P25(295,138) P26(335,138) P27(374,138) P28(413,138) P29(453,138) P30(492,138) P31(532,138) P32(571,138) P33(610,138) P34(650,138) R1(-650,98) R2(-610,98) R3(-571,98) R4(-532,98) R5(-492,98) R6(-453,98) R7(-413,98) R8(-374,98) R9(-335,98) R10(-295,98) R11(-256,98) R12(-217,98) R13(-177,98) R14(-138,98) R15(-98,98) R16(-59,98) R17(-20,98) R18(20,98) R19(59,98) R20(98,98) R21(138,98) R22(177,98) R23(217,98) R24(256,98) R25(295,98) R26(335,98) R27(374,98) R28(413,98) R29(453,98) R30(492,98) R31(532,98) R32(571,98) R33(610,98) R34(650,98) T1(-650,59) T2(-610,59) T3(-571,59) T4(-532,59) T5(-492,59) T6(-453,59) T7(-413,59) T8(-374,59) T9(-335,59) T10(-295,59) T11(-256,59) T12(-217,59) T13(-177,59) T14(-138,59) T15(-98,59) T16(-59,59) T17(-20,59) T18(20,59) T19(59,59) T20(98,59) T21(138,59) T22(177,59) T23(217,59) T24(256,59) T25(295,59) T26(335,59) T27(374,59) T28(413,59) T29(453,59) T30(492,59) T31(532,59) T32(571,59) T33(610,59) T34(650,59) U1(-650,20) U2(-610,20) U3(-571,20) U4(-532,20) U5(-492,20) U6(-453,20) U7(-413,20) U8(-374,20) U9(-335,20) U10(-295,20) U11(-256,20) U12(-217,20) U13(-177,20) U14(-138,20) U15(-98,20) U16(-59,20) U17(-20,20) U18(20,20) U19(59,20) U20(98,20) U21(138,20) U22(177,20) U23(217,20) U24(256,20) U25(295,20) U26(335,20) U27(374,20) U28(413,20) U29(453,20) U30(492,20) U31(532,20) U32(571,20) U33(610,20) U34(650,20) V1(-650,-20) V2(-610,-20) V3(-571,-20) V4(-532,-20) V5(-492,-20) V6(-453,-20) V7(-413,-20) V8(-374,-20) V9(-335,-20) V10(-295,-20) V11(-256,-20) V12(-217,-20) V13(-177,-20) V14(-138,-20) V15(-98,-20) V16(-59,-20) V17(-20,-20) V18(20,-20) V19(59,-20) V20(98,-20) V21(138,-20) V22(177,-20) V23(217,-20) V24(256,-20) V25(295,-20) V26(335,-20) V27(374,-20) V28(413,-20) V29(453,-20) V30(492,-20) V31(532,-20) V32(571,-20) V33(610,-20) V34(650,-20) W1(-650,-59) W2(-610,-59) W3(-571,-59) W4(-532,-59) W5(-492,-59) W6(-453,-59) W7(-413,-59) W8(-374,-59) W9(-335,-59) W10(-295,-59) W11(-256,-59) W12(-217,-59) W13(-177,-59) W14(-138,-59) W15(-98,-59) W16(-59,-59) W17(-20,-59) W18(20,-59) W19(59,-59) W20(98,-59) W21(138,-59) W22(177,-59) W23(217,-59) W24(256,-59) W25(295,-59) W26(335,-59) W27(374,-59) W28(413,-59) W29(453,-59) W30(492,-59) W31(532,-59) W32(571,-59) W33(610,-59) W34(650,-59) Y1(-650,-98) Y2(-610,-98) Y3(-571,-98) Y4(-532,-98) Y5(-492,-98) Y6(-453,-98) Y7(-413,-98) Y8(-374,-98) Y9(-335,-98) Y10(-295,-98) Y11(-256,-98) Y12(-217,-98) Y13(-177,-98) Y14(-138,-98) Y15(-98,-98) Y16(-59,-98) Y17(-20,-98) Y18(20,-98) Y19(59,-98) Y20(98,-98) Y21(138,-98) Y22(177,-98) Y23(217,-98) Y24(256,-98) Y25(295,-98) Y26(335,-98) Y27(374,-98) Y28(413,-98) Y29(453,-98) Y30(492,-98) Y31(532,-98) Y32(571,-98) Y33(610,-98) Y34(650,-98)
  oct 16x16 smd mask+3: B1(-650,610)
Top Overlay:
  lines w8: -692,-692 692,-692 692,692 -662,692 -692,662 -692,-692
Mechanical 1:
  lines w4: -692,-692 692,-692 692,692 -662,692 -692,662 -692,-692
Mechanical 15:
  lines w4: -20,0 20,0 ; 0,-20 0,20